# EAGLE library part AD8129/8130 (library analog-devices)
Differential Receiver Amplifiers
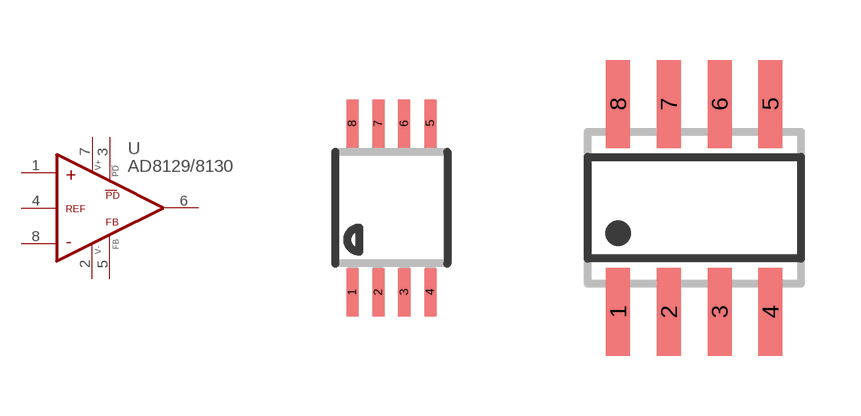
[diagram p48: symbol with the pads of MSOP08; footprints MSOP08, SO08]

Designator prefix U

## AD8129/8130RM  [MSOP08]
1  +IN  in
2  V-  pas
3  PD  in
4  REF  in
5  FB  in
6  OUT+  out
7  V+  pas
8  -IN  in

## AD8129/8130R  [SO08]
Pads as for MSOP08

## Footprint MSOP08 (pad centres in mm)
Mini Small Outline Package
smd 0.3 x 1.2: 1 -0.975,-2.113; 2 -0.325,-2.113; 3 0.325,-2.113; 4 0.975,-2.113; 5 0.975,2.112; 6 0.324,2.112; 7 -0.325,2.112; 8 -0.975,2.112

## Footprint SO08 (pad centres in mm)
SMALL OUTLINE INTEGRATED CIRCUIT body 3.9 mm/JEDEC MS-012AA
smd 0.6 x 2.2: 1 -1.905,-2.6; 2 -0.635,-2.6; 3 0.635,-2.6; 4 1.905,-2.6; 5 1.905,2.6; 6 0.635,2.6; 7 -0.635,2.6; 8 -1.905,2.6